# EAGLE library part LMH6703MF (library Labor)
LMH6703 1.2 GHz, Low Distortion Op Amp with Shutdown Source: http://www.national.com/ds/LM/LMH6703.pdf
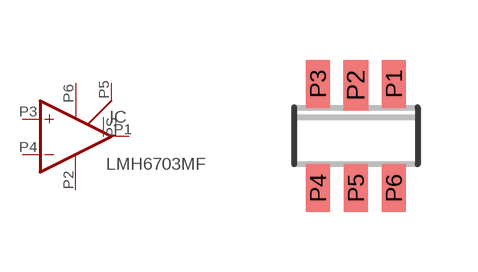
[diagram p0: symbol with the pads of SOT23-6; footprint SOT23-6]

Designator prefix IC

## LMH6703MF, LMH6703MFX  [SOT23-6]
P1  OUT  out
P2  V-  pwr
P3  +IN  in
P4  -IN  in
P5  !PS  in
P6  V+  pwr

## Footprint SOT23-6 (pad centres in mm)
Small Outline Transistor, 5 lead
smd 0.6 x 1.2: P1 0.95,1.306; P3 -0.95,1.306; P4 -0.95,-1.306; P5 0,-1.306; P6 0.95,-1.306
smd 0.635 x 1.27: P2 0,1.27